# EAGLE library part MT3608 (library MT3608)
MT3608 High Efficiency 1.2MHz 2A Step Up Converter BY: Rangana Tennakoon
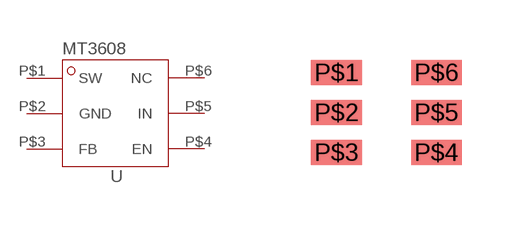
[diagram p0: symbol with the pads of SOT23-6; footprint SOT23-6]

Designator prefix -

## MT3608SOT23-6  [SOT23-6]
P$1  SW
P$2  GND
P$3  FB
P$4  EN
P$5  IN
P$6  NC

## Footprint SOT23-6 (pad centres in mm)
smd 1.27 x 0.635: P$1 0,0; P$2 0,-1; P$3 0,-2; P$4 2.5,-2; P$5 2.5,-1; P$6 2.5,0